# Altium schematic symbol library Connectors-Molex.SchLib: 4 symbols
Pins are listed as number, name and electrical type; pins without a type are passive.

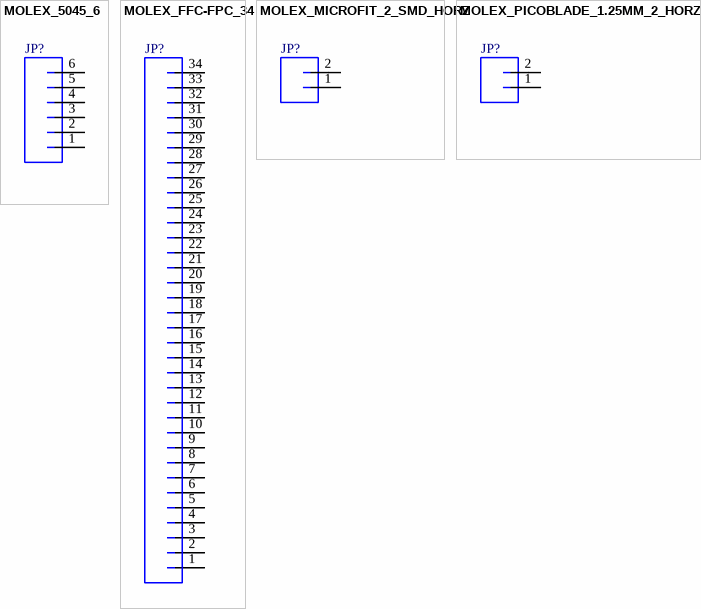
[diagram p0: symbols MOLEX_5045_6 to MOLEX_PICOBLADE_1.25MM_2_HORZ_SMD]

## MOLEX_5045_6
designator JP?
PartNumber: B6B-PH-K-S(LF)(SN); Manufacturer: JST Sales America Inc.; PackageReference: JST-PH; Mounting Technology: Through Hole
footprint MOLEX_5045_6
pins: 1, 2, 3, 4, 5, 6

## MOLEX_FFC-FPC_34
designator JP?  (value not drawn)
Manufacturer: Molex; PartNumber: 51296-3494; PackageReference: FFC-FPC-0.5; Mounting Technology: Surface Mount
footprint MOLEX-FFC-FPC-0.5MM-34
pins: 1, 2, 3, 4, 5, 6, 7, 8, 9, 10, 11, 12, 13, 14, 15, 16, 17, 18, 19, 20, 21, 22, 23, 24, 25, 26, 27, 28, 29, 30, 31, 32, 33, 34

## MOLEX_MICROFIT_2_SMD_HORZ
designator JP?
Manufacturer: Molex; PartNumber: 43650-0212; Mounting Technology: Surface Mount; PackageReference: Microfit-3.0mm
footprint MOLEX-MICROFIT-2-SMD-HORZ (Micro-Fit 3.0™ Right Angle Header, 3.00mm Pitch, Single Row, 2 Circuits, with Solder Tab, Tin, Glow Wire Capable, Black)
pins: 1, 2

## MOLEX_PICOBLADE_1.25MM_2_HORZ_SMD
designator JP?
Manufacturer: Molex; PartNumber: 53261-0271; Mounting Technology: Surface Mount; PackageReference: PicoBlade-1.25mm
footprint MOLEX-PICOBLADE-1.25MM-2-HORZ-SMD
pins: 1, 2